# Altium schematic symbol library dongxf_Schlib.SchLib: 300 symbols (part 1 of 6)
Pins are listed as number, name and electrical type; pins without a type are passive.

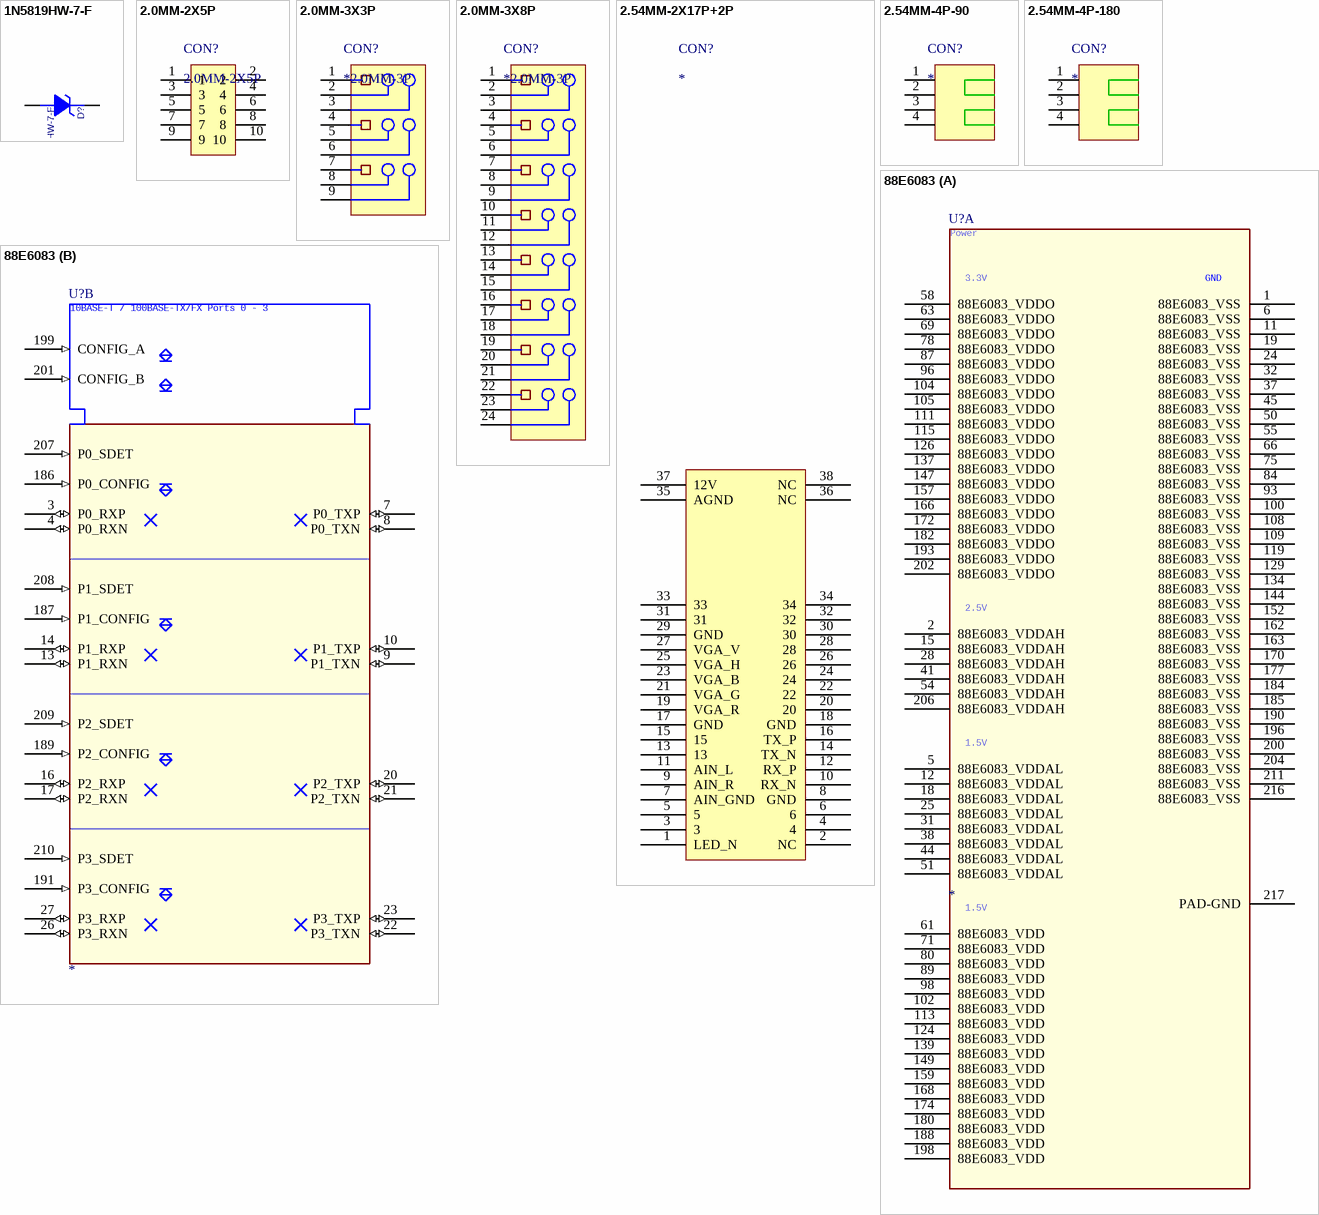
[diagram p0: symbols 1N5819HW-7-F to 88E6083]

## 1N5819HW-7-F
designator D?
Manufacturer: Diodes Incorporated; Configuration: Single; Forward Continuous Current: 1 A; Max Surge Current: 25 A; Forward Voltage Drop: 0.75 V at 3 A; Maximum Power Dissipation: 450 mW; Maximum Reverse Leakage Current: 1000 uA; Peak Reverse Voltage: 40 V; Impedance: 60 Ohms; Maximum DC Current: 3 A; Maximum DC Resistance: 40 mOhms; Tolerance: 25 %; Case Height: 0.94 mm; Case Length: 1.6 mm; Case Width: 0.8 mm; Test Frequency: 100 MHz; Supplier 1: Mouser; Manufacturer Part Number: 1N5819HW-7-F; RoHS: RoHS Compliant; Category: Schottky Diodes & Rectifiers; Stock 1: 48875; Pricing 1: 1=0.689, 10=0.389, 100=0.166, 1000=0.128, 3000=0.097, 9000=0.086, 24000=0.081, 45000=0.072, 99000=0.068 (AUD); Operating Temperature Range: - 65 C to + 125 C; Package / Case: SOD-123; Packaging: Reel; Product: Schottky Rectifiers; Series: 1N5819; Brand: Diodes Incorporated; Mounting Style: SMD/SMT; Product Category: Rectifier - Schottky; Standard Pack Qty: 3000; RoHS - Mouser: Y; Minimum Order Quantity: 1; Reeling: True; ComponentLink1URL: http://www.mouser.com/ds/2/115/ds30217-71027.pdf; ComponentLink1Description: http://www.mouser.com/ds/2/115/ds30217-71027.pdf; Supplier Part Number 1: 621-1N5819HW-F; My_Descript: 1N5819HW-7-F; Supplier 2: Mouser; Stock 2: 902; Pricing 2: 1=0.135, 25=0.093, 50=0.072, 100=0.065, 500=0.058, 1000=0.050, 2000=0.047, 4000=0.042, 8000=0.039 (AUD); Capacitance: -; Dimensions: 0.8 mm W x 1.6 mm L x 0.94 mm H; Termination Style: SMD/SMT; ComponentLink2URL: http://doc.aemcomponents.com/catalog/AEM_MCP.pdf; ComponentLink2Description: http://doc.aemcomponents.com/catalog/AEM_MCP.pdf; Supplier Part Number 2: 637-MCP0603F600PT-T
footprint D1206
pins: A ANODE, C CATHODE

## 2.0MM-2X5P
designator CON?
My_Descript: 2.0MM-2X5P
footprint CON2.0_2X5
pins: 1, 2, 3, 4, 5, 6, 7, 8, 9, 10

## 2.0MM-3X3P
designator CON?, comment *2.0MM-3P
pins: 1, 2, 3, 4, 5, 6, 7, 8, 9

## 2.0MM-3X8P
designator CON?, comment *2.0MM-3P
pins: 1, 2, 3, 4, 5, 6, 7, 8, 9, 10, 11, 12, 13, 14, 15, 16, 17, 18, 19, 20, 21, 22, 23, 24

## 2.54MM-2X17P+2P
designator CON?
pins: 1 LED_N, 2 NC, 3, 4, 5, 6, 7 AIN_GND, 8 GND, 9 AIN_R, 10 RX_N, 11 AIN_L, 12 RX_P, 13, 14 TX_N, 15, 16 TX_P, 17 GND, 18 GND, 19 VGA_R, 20, 21 VGA_G, 22, 23 VGA_B, 24, 25 VGA_H, 26, 27 VGA_V, 28, 29 GND, 30, 31, 32, 33, 34, 35 AGND, 36 NC, 37 12V, 38 NC

## 2.54MM-4P-90
designator CON?
footprint 2.54MM-4P-90
pins: 1 10, 2 11, 3 12, 4 13

## 2.54MM-4P-180
designator CON?
footprint 2.54MM-4P-180
pins: 1 10, 2 11, 3 12, 4 13

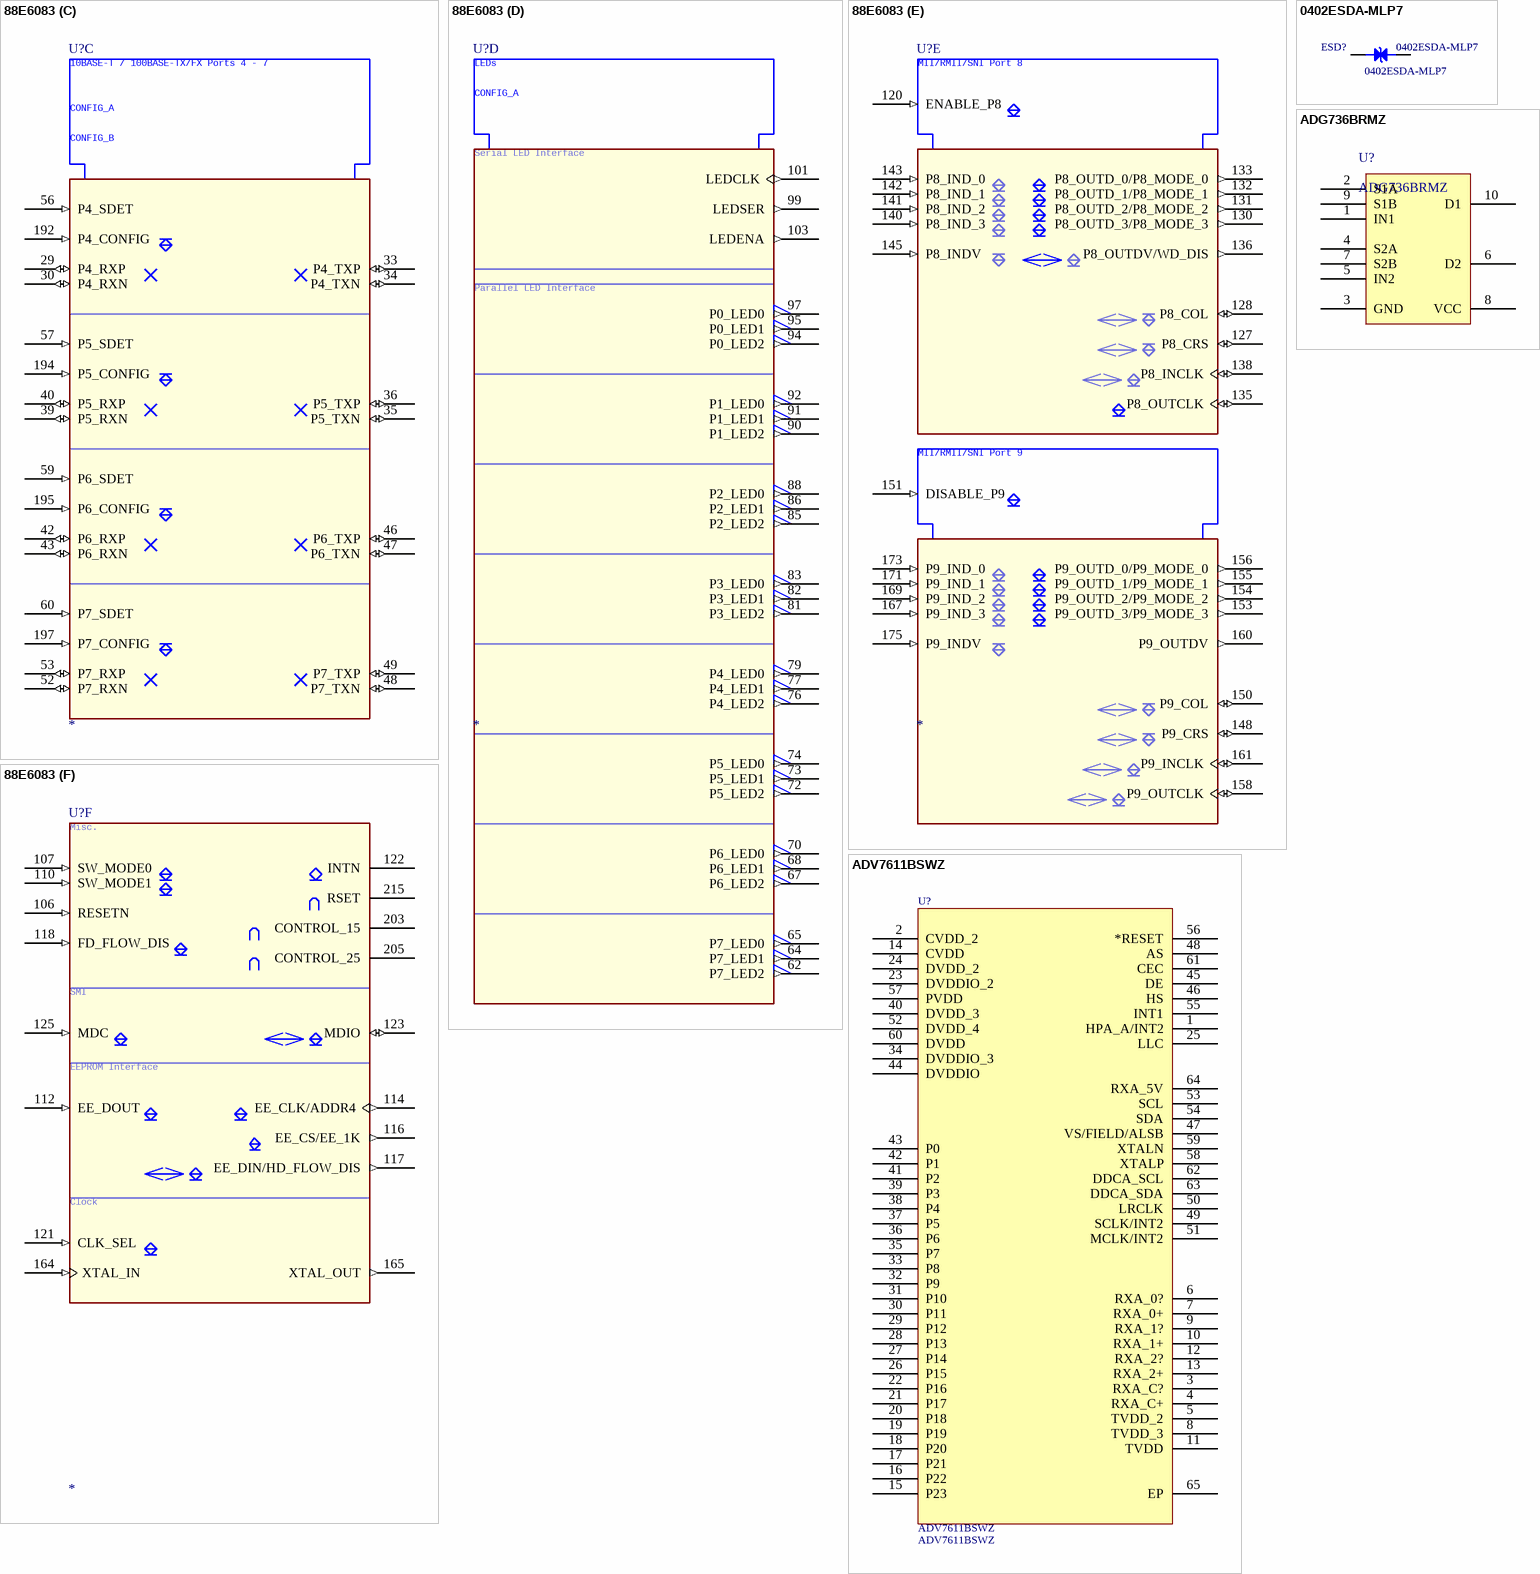
[diagram p1: symbols 88E6083 to ADV7611BSWZ]

## 88E6083
designator U?
footprint LQFP216
part A pins: 1 88E6083_VSS (power), 2 88E6083_VDDAH (power), 5 88E6083_VDDAL (power), 6 88E6083_VSS (power), 11 88E6083_VSS (power), 12 88E6083_VDDAL (power), 15 88E6083_VDDAH (power), 18 88E6083_VDDAL (power), 19 88E6083_VSS (power), 24 88E6083_VSS (power), 25 88E6083_VDDAL (power), 28 88E6083_VDDAH (power), 31 88E6083_VDDAL (power), 32 88E6083_VSS (power), 37 88E6083_VSS (power), 38 88E6083_VDDAL (power), 41 88E6083_VDDAH (power), 44 88E6083_VDDAL (power), 45 88E6083_VSS (power), 50 88E6083_VSS (power), 51 88E6083_VDDAL (power), 54 88E6083_VDDAH (power), 55 88E6083_VSS (power), 58 88E6083_VDDO (power), 61 88E6083_VDD (power), 63 88E6083_VDDO (power), 66 88E6083_VSS (power), 69 88E6083_VDDO (power), 71 88E6083_VDD (power), 75 88E6083_VSS (power), 78 88E6083_VDDO (power), 80 88E6083_VDD (power), 84 88E6083_VSS (power), 87 88E6083_VDDO (power), 89 88E6083_VDD (power), 93 88E6083_VSS (power), 96 88E6083_VDDO (power), 98 88E6083_VDD (power), 100 88E6083_VSS (power), 102 88E6083_VDD (power), 104 88E6083_VDDO (power), 105 88E6083_VDDO (power), 108 88E6083_VSS (power), 109 88E6083_VSS (power), 111 88E6083_VDDO (power), 113 88E6083_VDD (power), 115 88E6083_VDDO (power), 119 88E6083_VSS (power), 124 88E6083_VDD (power), 126 88E6083_VDDO (power), 129 88E6083_VSS (power), 134 88E6083_VSS (power), 137 88E6083_VDDO (power), 139 88E6083_VDD (power), 144 88E6083_VSS (power), 147 88E6083_VDDO (power), 149 88E6083_VDD (power), 152 88E6083_VSS (power), 157 88E6083_VDDO (power), 159 88E6083_VDD (power), 162 88E6083_VSS (power), 163 88E6083_VSS (power), 166 88E6083_VDDO (power), 168 88E6083_VDD (power), 170 88E6083_VSS (power), 172 88E6083_VDDO (power), 174 88E6083_VDD (power), 177 88E6083_VSS (power), 180 88E6083_VDD (power), 182 88E6083_VDDO (power), 184 88E6083_VSS (power), 185 88E6083_VSS (power), 188 88E6083_VDD (power), 190 88E6083_VSS (power), 193 88E6083_VDDO (power), 196 88E6083_VSS (power), 198 88E6083_VDD (power), 200 88E6083_VSS (power), 202 88E6083_VDDO (power), 204 88E6083_VSS (power), 206 88E6083_VDDAH (power), 211 88E6083_VSS (power), 216 88E6083_VSS (power), 217 PAD-GND
part B pins: 3 P0_RXP (io), 4 P0_RXN (io), 7 P0_TXP (io), 8 P0_TXN (io), 9 P1_TXN (io), 10 P1_TXP (io), 13 P1_RXN (io), 14 P1_RXP (io), 16 P2_RXP (io), 17 P2_RXN (io), 20 P2_TXP (io), 21 P2_TXN (io), 22 P3_TXN (io), 23 P3_TXP (io), 26 P3_RXN (io), 27 P3_RXP (io), 186 P0_CONFIG (in), 187 P1_CONFIG (in), 189 P2_CONFIG (in), 191 P3_CONFIG (in), 199 CONFIG_A (in), 201 CONFIG_B (in), 207 P0_SDET (in), 208 P1_SDET (in), 209 P2_SDET (in), 210 P3_SDET (in)
part C pins: 29 P4_RXP (io), 30 P4_RXN (io), 33 P4_TXP (io), 34 P4_TXN (io), 35 P5_TXN (io), 36 P5_TXP (io), 39 P5_RXN (io), 40 P5_RXP (io), 42 P6_RXP (io), 43 P6_RXN (io), 46 P6_TXP (io), 47 P6_TXN (io), 48 P7_TXN (io), 49 P7_TXP (io), 52 P7_RXN (io), 53 P7_RXP (io), 56 P4_SDET (in), 57 P5_SDET (in), 59 P6_SDET (in), 60 P7_SDET (in), 192 P4_CONFIG (in), 194 P5_CONFIG (in), 195 P6_CONFIG (in), 197 P7_CONFIG (in)
part D pins: 62 P7_LED2 (out), 64 P7_LED1 (out), 65 P7_LED0 (out), 67 P6_LED2 (out), 68 P6_LED1 (out), 70 P6_LED0 (out), 72 P5_LED2 (out), 73 P5_LED1 (out), 74 P5_LED0 (out), 76 P4_LED2 (out), 77 P4_LED1 (out), 79 P4_LED0 (out), 81 P3_LED2 (out), 82 P3_LED1 (out), 83 P3_LED0 (out), 85 P2_LED2 (out), 86 P2_LED1 (out), 88 P2_LED0 (out), 90 P1_LED2 (out), 91 P1_LED1 (out), 92 P1_LED0 (out), 94 P0_LED2 (out), 95 P0_LED1 (out), 97 P0_LED0 (out), 99 LEDSER (out), 101 LEDCLK (out), 103 LEDENA (out)
part E pins: 120 ENABLE_P8 (in), 127 P8_CRS (io), 128 P8_COL (io), 130 P8_OUTD_3/P8_MODE_3 (out), 131 P8_OUTD_2/P8_MODE_2 (out), 132 P8_OUTD_1/P8_MODE_1 (out), 133 P8_OUTD_0/P8_MODE_0 (out), 135 P8_OUTCLK (io), 136 P8_OUTDV/WD_DIS (out), 138 P8_INCLK (io), 140 P8_IND_3 (in), 141 P8_IND_2 (in), 142 P8_IND_1 (in), 143 P8_IND_0 (in), 145 P8_INDV (in), 148 P9_CRS (io), 150 P9_COL (io), 151 DISABLE_P9 (in), 153 P9_OUTD_3/P9_MODE_3 (out), 154 P9_OUTD_2/P9_MODE_2 (out), 155 P9_OUTD_1/P9_MODE_1 (out), 156 P9_OUTD_0/P9_MODE_0 (out), 158 P9_OUTCLK (io), 160 P9_OUTDV (out), 161 P9_INCLK (io), 167 P9_IND_3 (in), 169 P9_IND_2 (in), 171 P9_IND_1 (in), 173 P9_IND_0 (in), 175 P9_INDV (in)
part F pins: 106 RESETN (in), 107 SW_MODE0 (in), 110 SW_MODE1 (in), 112 EE_DOUT (in), 114 EE_CLK/ADDR4 (out), 116 EE_CS/EE_1K (out), 117 EE_DIN/HD_FLOW_DIS (out), 118 FD_FLOW_DIS (in), 121 CLK_SEL (in), 122 INTN (oe), 123 MDIO (io), 125 MDC (in), 164 XTAL_IN (in), 165 XTAL_OUT (out), 203 CONTROL_15, 205 CONTROL_25, 215 RSET
part A text: Power; 3.3V; GND; 2.5V; 1.5V
part B text: 10BASE-T / 100BASE-TX/FX Ports 0 - 3
part C text: 10BASE-T / 100BASE-TX/FX Ports 4 - 7
part D text: LEDs; Serial LED Interface; Parallel LED Interface
part E text: MII/RMII/SNI Port 8; MII/RMII/SNI Port 9
part F text: Misc.; SMI; EEPROM Interface; Clock

## 0402ESDA-MLP7
designator ESD?
ESD Suppressors ESD 30VDC 0402 SMD SUPPRESSOR; Manufacturer: Cooper Bussmann; Capacitance: 0.05 pF; Clamping Voltage: 35 V; Supplier 1: Mouser; Supplier Part Number 1: 504-0402ESDA-MLP7; RoHS: RoHS Compliant; Category: ESD Suppressors; Operating Temperature Range: - 55 C to + 125 C; Operating Voltage: 30 VDC; Package / Case: 0402 (1005 metric); Termination Style: Solder Pad; Product Category: Transient Voltage Suppressors; RoHS - Mouser: Y; Reeling: False; ComponentLink1URL: http://www.mouser.com/ds/2/87/9bb007b1-35a6-4eb2-a52f-3d6970c49915-18025.pdf; ComponentLink1Description: http://www.mouser.com/ds/2/87/9bb007b1-35a6-4eb2-a52f-3d6970c49915-18025.pdf; My_Descript: 0402ESDA-MLP7; Manufacturer Part Number: 0402ESDA-MLP7
footprint ESD0402 (Same Footprint  as CAPC1005X55L_ZYN)
pins: 1, 2

## ADG736BRMZ
designator U?
pins: 1 IN1, 2 S1A, 3 GND, 4 S2A, 5 IN2, 6 D2, 7 S2B, 8 VCC, 9 S1B, 10 D1

## ADV7611BSWZ
designator U?
Manufacturer: Analog Devices; Product Status: New at Mouser; Taobao Price: 32.8; Supplier 1: Mouser; Supplier Part Number 1: 584-ADV7611BSWZ; Series: ADV7611; RoHS: RoHS Compliant; Package / Case: LQFP EP; Mounting Style: SMD/SMT; Category: Video ICs; Packaging: Tray; Reeling: False; Maximum Operating Temperature: + 85 C; Standard Pack Qty: 160; RoHS - Mouser: Y; Minimum Operating Temperature: - 40 C; Taobao Link: http://item.taobao.com/item.htm?spm=a230r.1.14.13.X1Oe7f&id=20746468361&_u=j1hhrld7711; My_Descript: ADV7611BSWZ; Manufacturer Part Number: ADV7611BSWZ
footprint QFP50P1200X1200X120-65CN
pins: 1 HPA_A/INT2, 2 CVDD_2, 3 RXA_C?, 4 RXA_C+, 5 TVDD_2, 6 RXA_0?, 7 RXA_0+, 8 TVDD_3, 9 RXA_1?, 10 RXA_1+, 11 TVDD, 12 RXA_2?, 13 RXA_2+, 14 CVDD, 15 P23, 16 P22, 17 P21, 18 P20, 19 P19, 20 P18, 21 P17, 22 P16, 23 DVDDIO_2, 24 DVDD_2, 25 LLC, 26 P15, 27 P14, 28 P13, 29 P12, 30 P11, 31 P10, 32 P9, 33 P8, 34 DVDDIO_3, 35 P7, 36 P6, 37 P5, 38 P4, 39 P3, 40 DVDD_3, 41 P2, 42 P1, 43 P0, 44 DVDDIO, 45 DE, 46 HS, 47 VS/FIELD/ALSB, 48 AS, 49 SCLK/INT2, 50 LRCLK, 51 MCLK/INT2, 52 DVDD_4, 53 SCL, 54 SDA, 55 INT1, 56 *RESET, 57 PVDD, 58 XTALP, 59 XTALN, 60 DVDD, 61 CEC, 62 DDCA_SCL, 63 DDCA_SDA, 64 RXA_5V, 65 EP

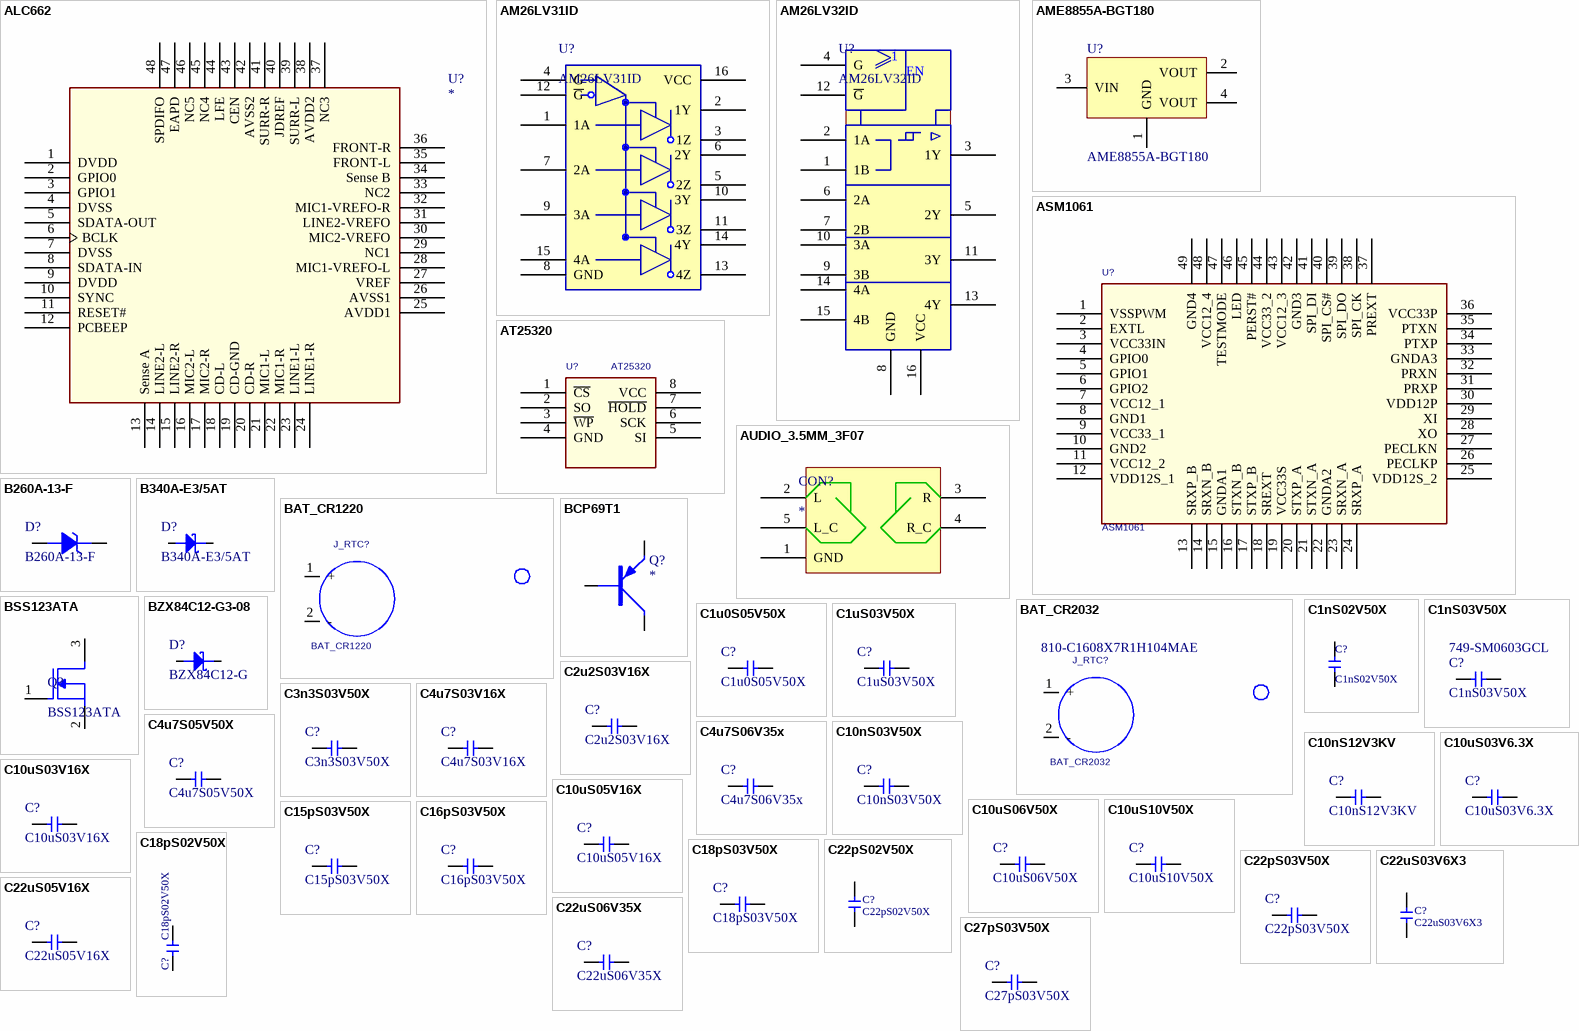
[diagram p2: symbols ALC662 to C27pS03V50X]

## ALC662
designator U?
footprint qfn48p0_5d_8w_tg
pins: 1 DVDD (power), 2 GPIO0, 3 GPIO1, 4 DVSS (power), 5 SDATA-OUT, 6 BCLK, 7 DVSS (power), 8 SDATA-IN, 9 DVDD (power), 10 SYNC, 11 RESET#, 12 PCBEEP, 13 Sense A, 14 LINE2-L, 15 LINE2-R, 16 MIC2-L, 17 MIC2-R, 18 CD-L, 19 CD-GND, 20 CD-R, 21 MIC1-L, 22 MIC1-R, 23 LINE1-L, 24 LINE1-R, 25 AVDD1, 26 AVSS1, 27 VREF, 28 MIC1-VREFO-L, 29 NC1, 30 MIC2-VREFO, 31 LINE2-VREFO, 32 MIC1-VREFO-R, 33 NC2, 34 Sense B, 35 FRONT-L, 36 FRONT-R, 37 NC3, 38 AVDD2, 39 SURR-L, 40 JDREF, 41 SURR-R, 42 AVSS2, 43 CEN, 44 LFE, 45 NC4, 46 NC5, 47 EAPD, 48 SPDIFO

## AM26LV31ID
designator U?
Buffers & Line Drivers LoVltg Hi-Sp Quad Diff Line Driver; Manufacturer: Texas Instruments; Interface: EIA/TIA-422-B. V.11; Supply Current: 0.1 mA; Number of Output Lines: 4; Number of Channels per Chip: 1 Channel; Supply Voltage - Max: 3.6 V; Supply Voltage - Min: 3 V; Supplier 1: Mouser; Manufacturer Part Number: AM26LV31ID; RoHS: RoHS Compliant; Category: Buffers & Line Drivers; Stock 1: 1540; Pricing 1: 1=1.84, 10=1.47, 100=1.13, 500=0.875, 1000=0.790, 2000=0.701, 10000=0.674 (AUD); Package / Case: SOIC-16; Packaging: Tube; Series: AM26LV31; Brand: Texas Instruments; Mounting Style: SMD/SMT; Maximum Operating Temperature: + 85 C; Minimum Operating Temperature: - 40 C; Product Category: Line Circuit Interface ICs; Standard Pack Qty: 40; RoHS - Mouser: Y; Minimum Order Quantity: 1; Reeling: False; ComponentLink1URL: http://www.mouser.com/ds/2/405/slls201g-127771.pdf; ComponentLink1Description: http://www.mouser.com/ds/2/405/slls201g-127771.pdf; Supplier Part Number 1: 595-AM26LV31ID; My_Descript: AM26LV31ID
footprint SOIC16
pins: 1 1A, 2 1Y, 3 1Z, 4 G, 5 2Z, 6 2Y, 7 2A, 8 GND, 9 3A, 10 3Y, 11 3Z, 12 ~{G}, 13 4Z, 14 4Y, 15 4A, 16 VCC

## AM26LV32ID
designator U?
Manufacturer: Texas Instruments; Protocol: RS422; Number of Drivers/Receivers: 0/4; Receiver Hysteresis: 50mV; Voltage - Supply: 3 V ~ 3.6 V; Supplier 1: Digi-Key; Manufacturer Part Number: AM26LV32ID; RoHS: RoHS Compliant; Category: Integrated Circuits (ICs); Stock 1: 957; Pricing 1: 1=1.71, 10=1.54, 50=1.375, 100=1.2375, 250=1.1, 500=0.9625, 750=0.869, 1000=0.7975 (USD); Packaging: Tube; Type: Receiver; Duplex: -; Data Rate: -; Operating Temperature: -40°C ~ 85°C; Mounting Type: Surface Mount; Package / Case: 16-SOIC (0.154", 3.90mm Width); Supplier Device Package: 16-SOIC N; ComponentLink1URL: http://www.ti.com/lit/ds/symlink/am26lv32.pdf; ComponentLink1Description: http://www.ti.com/lit/ds/symlink/am26lv32.pdf; My_Descript: AM26LV32ID; Supplier Part Number 1: 296-25914-5-ND
footprint SOIC16
pins: 1 1B, 2 1A, 3 1Y, 4 G, 5 2Y, 6 2A, 7 2B, 8 GND, 9 3B, 10 3A, 11 3Y, 12 ~{G}, 13 4Y, 14 4A, 15 4B, 16 VCC
text: EN

## AME8855A-BGT180
designator U?
IC REG LDO 1.8V 0.8A SOT223; Manufacturer Part Number: AME8855A-BGT180; My_Descript: AME8855A-BGT180
footprint SOT223-4
pins: 1 GND, 2 VOUT, 3 VIN, 4 VOUT

## ASM1061
designator U?
REUSE_ANNOTATE: TRUE
footprint qfn48p0_5d_tg
footprint qfn48p0_5d_tg
pins: 1 VSSPWM, 2 EXTL, 3 VCC33IN, 4 GPIO0, 5 GPIO1, 6 GPIO2, 7 VCC12_1, 8 GND1, 9 VCC33_1, 10 GND2, 11 VCC12_2, 12 VDD12S_1, 13 SRXP_B, 14 SRXN_B, 15 GNDA1, 16 STXN_B, 17 STXP_B, 18 SREXT, 19 VCC33S, 20 STXP_A, 21 STXN_A, 22 GNDA2, 23 SRXN_A, 24 SRXP_A, 25 VDD12S_2, 26 PECLKP, 27 PECLKN, 28 XO, 29 XI, 30 VDD12P, 31 PRXP, 32 PRXN, 33 GNDA3, 34 PTXP, 35 PTXN, 36 VCC33P, 37 PREXT, 38 SPI_CK, 39 SPI_DO, 40 SPI_CS#, 41 SPI_DI, 42 GND3, 43 VCC12_3, 44 VCC33_2, 45 PERST#, 46 LED, 47 TESTMODE, 48 VCC12_4, 49 GND4

## AT25320
designator U?
Manufacturer: ATMEL; MPN: AT93C46DN-SH-T; DEVICE: D33624-001; NO_STUFF: .; REUSE_ANNOTATE: TRUE; IPN: ?; PART_NUMBER: AT93C46DN-SH-T
footprint sop8_tg
footprint sop8_tg
pins: 1 ~{CS}, 2 SO, 3 ~{WP}, 4 GND, 5 SI, 6 SCK, 7 ~{HOLD}, 8 VCC

## AUDIO_3.5MM_3F07
designator CON?
footprint AUDIO_3.5MM_3F07
pins: 1 GND, 2 L, 3 R, 4 R_C, 5 L_C

## B260A-13-F
designator D?
Schottky Diodes & Rectifiers 60V 2A; Manufacturer: Diodes Incorporated; Configuration: Single; Max Surge Current: 50 A; Forward Voltage Drop: 0.7 V; Maximum Reverse Leakage Current: 500 uA; Supplier 1: Mouser; Manufacturer Part Number: B260A-13-F; RoHS: RoHS Compliant By Exemption; Category: Schottky Diodes & Rectifiers; Stock 1: 24464; Pricing 1: 1=0.635, 10=0.419, 100=0.234, 1000=0.161, 5000=0.147, 10000=0.138, 25000=0.127, 50000=0.122 (AUD); Operating Temperature Range: - 65 C to + 150 C; Package / Case: SMA; Packaging: Reel; Product: Schottky Diodes; Series: B260; Brand: Diodes Incorporated; Forward Continuous Current: 2 A; Mounting Style: SMD/SMT; Peak Reverse Voltage: 60 V; Product Category: Rectifier - Schottky; Standard Pack Qty: 5000; RoHS - Mouser: E; Minimum Order Quantity: 1; Reeling: True; ComponentLink1URL: http://www.mouser.com/ds/2/115/ds13004-70120.pdf; ComponentLink1Description: http://www.mouser.com/ds/2/115/ds13004-70120.pdf; Supplier Part Number 1: 621-B260A-F; My_Descript: B260A-13-F
footprint SMb
pins: A ANODE, C CATHODE

## B340A-E3/5AT
designator D?
Schottky Diodes & Rectifiers 3.0 Amp 40 Volt; Manufacturer: Vishay Semiconductors; Configuration: Single; Forward Continuous Current: 3 A; Max Surge Current: 65 A; Forward Voltage Drop: 0.55 V; Maximum Reverse Leakage Current: 500 uA; Peak Reverse Voltage: 40 V; Supplier 1: Mouser; Manufacturer Part Number: B340A-E3/5AT; RoHS: RoHS Compliant By Exemption; Category: Schottky Diodes & Rectifiers; Stock 1: 0; Pricing 1: 1=0.351, 10=0.324, 50=0.297, 100=0.270, 750=0.203, 1500=0.176, 3000=0.154, 7500=0.151 (AUD); Operating Temperature Range: - 65 C to + 150 C; Package / Case: SMA (DO-214AC); Packaging: Reel; Product: Schottky Rectifiers; Brand: Vishay Semiconductors; Mounting Style: SMD/SMT; Product Category: Schottky Rectifiers; Standard Pack Qty: 7500; RoHS - Mouser: E; Minimum Order Quantity: 1; Reeling: True; ComponentLink1URL: http://www.mouser.com/ds/2/427/b330la-104191.pdf; ComponentLink1Description: http://www.mouser.com/ds/2/427/b330la-104191.pdf; Supplier Part Number 1: 625-B340A-E3/5AT; My_Descript: B340A-E3/5AT
footprint SMA (DO-214AC)
pins: A, C

## BAT_CR1220
designator J_RTC?
Manufacturer: JST; PART_NUMBER: SM02B-SRSS-TB; Manufacturer Part Number: C1608X7R1H104M080AE; NO_STUFF: .; LEAD_FREE: YES; IPN: D39917-001; Capacitance: 0.1 uF; Tolerance: 20 %; Voltage Rating: 50 V; Brand: TDK; Case Height: 0.8 mm; Case Length: 1.6 mm; Class: Class 2; Dielectric: X7R; Dissipation Factor DF: 3; Product Status: New Product; MPN: SM02B-SRSS-TB; DEVICE: SM02B-SRSS-TB; Supplier 1: Mouser; RoHS: RoHS Compliant; Category: Multilayer Ceramic Capacitors MLCC - SMD/SMT; Stock 1: 0; Pricing 1: 1=0.311, 10=0.135, 100=0.081, 1000=0.069, 4000=0.051, 8000=0.049, 24000=0.046, 48000=0.043, 100000=0.036 (AUD); Operating Temperature Range: - 55 C to + 125 C; Package / Case: 0603 (1608 metric); Packaging: Reel; Product: General Type MLCCs; Termination Style: SMD/SMT; Type: Soft Termination MLCC; Voltage Rating DC: 50 V; Case Code - in: 0603; Case Code - mm: 1608; Case Width: 0.8 mm; Temperature Coefficient / Code: X7R; RoHS - Mouser: Y; Minimum Order Quantity: 1; Reeling: True; ComponentLink1URL: http://product.tdk.com/capacitor/mlcc/detailed_information.php?lang=en&ref=us&part_no=C1608X7R1H104M080AE; ComponentLink1Description: http://product.tdk.com/capacitor/mlcc/detailed_information.php?lang=en&ref=us&part_no=C1608X7R1H104M080AE; My_Descript: BAT_CR1220; Supplier Part Number 1: S8411-45R
footprint BAT_CR1220
footprint bat_cr2032_mini_tg
pins: 1 +, 2 -

## BAT_CR2032
designator J_RTC?  Supplier Part Number 1: 810-C1608X7R1H104MAE
Manufacturer: JST; PART_NUMBER: SM02B-SRSS-TB; Manufacturer Part Number: C1608X7R1H104M080AE; NO_STUFF: .; LEAD_FREE: YES; IPN: D39917-001; Capacitance: 0.1 uF; Tolerance: 20 %; Voltage Rating: 50 V; Brand: TDK; Case Height: 0.8 mm; Case Length: 1.6 mm; Class: Class 2; Dielectric: X7R; Dissipation Factor DF: 3; Product Status: New Product; MPN: SM02B-SRSS-TB; DEVICE: SM02B-SRSS-TB; Supplier 1: Mouser; RoHS: RoHS Compliant; Category: Multilayer Ceramic Capacitors MLCC - SMD/SMT; Stock 1: 0; Pricing 1: 1=0.311, 10=0.135, 100=0.081, 1000=0.069, 4000=0.051, 8000=0.049, 24000=0.046, 48000=0.043, 100000=0.036 (AUD); Operating Temperature Range: - 55 C to + 125 C; Package / Case: 0603 (1608 metric); Packaging: Reel; Product: General Type MLCCs; Termination Style: SMD/SMT; Type: Soft Termination MLCC; Voltage Rating DC: 50 V; Case Code - in: 0603; Case Code - mm: 1608; Case Width: 0.8 mm; Temperature Coefficient / Code: X7R; RoHS - Mouser: Y; Minimum Order Quantity: 1; Reeling: True; ComponentLink1URL: http://product.tdk.com/capacitor/mlcc/detailed_information.php?lang=en&ref=us&part_no=C1608X7R1H104M080AE; ComponentLink1Description: http://product.tdk.com/capacitor/mlcc/detailed_information.php?lang=en&ref=us&part_no=C1608X7R1H104M080AE
footprint bat_cr2032_tg
footprint bat_cr2032_mini_tg
pins: 1 +, 2 -

## BCP69T1
designator Q?
Manufacturer: ON Semiconductor; Manufacturer Part Number: BCP69T1G; Collector- Base Voltage VCBO: - 25 V; Collector- Emitter Voltage VCEO Max: - 20 V; Configuration: Single; Emitter- Base Voltage VEBO: 5 V; Collector-Emitter Saturation Voltage: - 0.5 V; Continuous Collector Current: - 1 A; Transistor Polarity: PNP; DC Collector/Base Gain hfe Min: 50; Gain Bandwidth Product fT: 60 MHz; Maximum DC Collector Current: 1 A; Maximum Power Dissipation: 1.5 W; My_Descript: BCP69T1; Supplier 1: Mouser; RoHS: RoHS Compliant; Category: Transistors Bipolar - BJT; Stock 1: 1742; Pricing 1: 1=0.770, 10=0.443, 100=0.209, 1000=0.161, 2000=0.136, 10000=0.126, 25000=0.117, 50000=0.105, 100000=0.101 (AUD); Package / Case: SOT-223-4; Packaging: Reel; Series: BCP69; Brand: ON Semiconductor; Mounting Style: SMD/SMT; Maximum Operating Temperature: + 150 C; Minimum Operating Temperature: - 65 C; Product Category: Transistors Bipolar- General Purpose; Standard Pack Qty: 1000; RoHS - Mouser: Y; Minimum Order Quantity: 1; Reeling: True; ComponentLink1URL: http://www.mouser.com/ds/2/308/BCP69T1-D-102818.pdf; ComponentLink1Description: http://www.mouser.com/ds/2/308/BCP69T1-D-102818.pdf; Supplier Part Number 1: 863-BCP69T1G
footprint SOT223-4
pins: 1 B, 2 E, 3 C, 4 C

## BSS123ATA
designator Q?
MOSFET N-Chnl 100V; Manufacturer: Diodes Incorporated; Configuration: Single; Transistor Polarity: N-Channel; Channel Mode: Enhancement; Fall Time: 10 ns; Id - Continuous Drain Current: 170 mA; Pd - Power Dissipation: 360 mW; Rds On - Drain-Source Resistance: 10 Ohms; Typical Turn-Off Delay Time: 15 ns; Vgs - Gate-Source Breakdown Voltage: 20 V; Product Status: Obsolete; Supplier 1: Mouser; Manufacturer Part Number: BSS123ATA; RoHS: RoHS Compliant; Category: MOSFET; Stock 1: 0; Package / Case: SOT-23-3; Packaging: Reel; Series: BSS123; Brand: Diodes Incorporated; Mounting Style: SMD/SMT; Maximum Operating Temperature: + 150 C; Minimum Operating Temperature: - 55 C; Product Category: MOSFETs; Rise Time: 10 ns; Standard Pack Qty: 3000; Vds - Drain-Source Breakdown Voltage: 100 V; RoHS - Mouser: Y; Minimum Order Quantity: 1; Reeling: True; ComponentLink1URL: http://www.diodes.com/_files/products_inactive_data/BSS123A_R5.pdf; ComponentLink1Description: http://www.diodes.com/_files/products_inactive_data/BSS123A_R5.pdf; Supplier Part Number 1: 522-BSS123ATA; My_Descript: BSS123ATA
footprint SOT-23-3
pins: 1, 2, 3

## BZX84C12-G3-08
designator D?, comment BZX84C12-G
Zener Diodes 12 Volt 0.35W 5%; Manufacturer: Vishay Semiconductors; Manufacturer Part Number: BZX84C12-G3-08; Configuration: Single; Power Dissipation: 300 mW; Maximum Reverse Leakage Current: 100 nA; Maximum Zener Impedance: 25 Ohms; Voltage Temperature Coefficient: 0.9 mV/C; Zener Voltage: 12 V; Product Status: New Product; Supplier 1: Mouser; RoHS: RoHS Compliant; Category: Zener Diodes; Stock 1: 0; Pricing 1: 1=0.135, 10=0.055, 50=0.053, 100=0.049, 500=0.045, 1000=0.042, 3000=0.041, 9000=0.039, 18000=0.038 (AUD); Package / Case: SOT-23-3; Packaging: Reel; Product: Small Signal Zener Diodes; Series: BZX84; Brand: Vishay Semiconductors; Mounting Style: SMD/SMT; Maximum Operating Temperature: + 150 C; Minimum Operating Temperature: - 55 C; Product Category: Zener Diodes; Standard Pack Qty: 3000; Voltage Tolerance: 5 %; RoHS - Mouser: Y; Minimum Order Quantity: 1; Reeling: True; ComponentLink1URL: http://www.mouser.com/ds/2/427/bzx84-v--108145.pdf; ComponentLink1Description: http://www.mouser.com/ds/2/427/bzx84-v--108145.pdf; Supplier Part Number 1: 78-BZX84C12-G3-08; My_Descript: BZX84C12-G
footprint SOT-23-3
pins: 1, 2 hidden, 3

## C1nS02V50X
designator C?
Multilayer Ceramic Capacitors MLCC - SMD/SMT 50volts 1000pF X7R 10%; Manufacturer: Kemet; Manufacturer Part Number: C0402C102K5RACTU; Capacitance - nF: 1 nF; Capacitance - uF: 0.001 uF; Class: 2; Voltage Rating DC: 50 V; Value: 1000pF; Supplier 1: Mouser; Supplier Part Number 1: 80-C0402C102K5R; Dimensions: 0.5 mm W x 1 mm L x 0.5 mm H; Capacitance: 1000 pF; Category: Multilayer Ceramic Capacitors MLCC - SMD/SMT; Product: MLCCs Tin/Lead Termination; Package / Case: 0402 (1005 metric); RoHS: RoHS Compliant; Packaging: Reel; Operating Temperature Range: - 55 C to + 125 C; Case Code - in: 0402; Case Code - mm: 1005; Product Category: 0402 SMD Ceramic Chip Capacitors; RoHS - Mouser: Y; Standard Pack Qty: 10000; Lead Spacing: 0.3 mm; Series: C0402C; Voltage Rating: 50 V; Tolerance: 10 %; Temperature Coefficient / Code: X7R; Minimum Order Quantity: 1; Reeling: True; Termination Style: SMD/SMT; My_Descript: C1nS02V50X
footprint C0402 (1005 metric)
pins: 1, 2

## C1nS03V50X
designator C?  Supplier Part Number 2: 749-SM0603GCL
Multilayer Ceramic Capacitors MLCC - SMD/SMT 0603 1000pF 50volts C0G 5%; Manufacturer: TDK; Manufacturer Part Number: C1608C0G1H102J080AA; Type: Multilayer Ceramic Chip Capacitor; Voltage Rating DC: 50 V; Case Height: 0.8 mm; Case Length: 1.6 mm; Dielectric: C0G (NP0); Temperature Coefficient / Code: +/- 30 PPM / C; Illumination Color: Green; Lens Color/Style: Water Clear; Forward Current: 2 mA; Forward Voltage: 1.9 V; LED Size: 1.6 mm x 0.8 mm x 0.6 mm; Luminous Intensity: 3.6 mcd; Viewing Angle: 130 deg; Wavelength/Color Temperature: 574 nm; Supplier 1: Mouser; RoHS: RoHS Compliant; Category: Multilayer Ceramic Capacitors MLCC - SMD/SMT; Stock 1: 53064; Pricing 1: 1=0.459, 10=0.057, 100=0.034, 1000=0.027, 4000=0.019, 24000=0.016, 48000=0.015, 100000=0.012 (AUD); Capacitance: 1000 pF; Operating Temperature Range: - 55 C to + 125 C; Package / Case: 0603 (1608 metric); Packaging: Reel; Product: General Type MLCCs; Series: C; Termination Style: SMD/SMT; Tolerance: 5 %; Brand: TDK; Case Code - in: 0603; Case Code - mm: 1608; Case Width: 0.8 mm; Maximum Operating Temperature: + 125 C; Minimum Operating Temperature: - 55 C; Product Category: Low & Medium Capacitance SMD Ceramic Chip Capacitors; Standard Pack Qty: 4000; RoHS - Mouser: Y; Minimum Order Quantity: 1; Reeling: True; ComponentLink1URL: http://www.mouser.com/ds/2/400/C1608C0G1H102J080AA-264620.pdf; ComponentLink1Description: http://www.mouser.com/ds/2/400/C1608C0G1H102J080AA-264620.pdf; Supplier Part Number 1: 810-C1608C0G1H102J; My_Descript: C1nS03V50X; Supplier 2: Mouser; Stock 2: 0; Pricing 2: 1=0.486, 10=0.378, 100=0.340, 250=0.309, 500=0.271, 1000=0.232, 4000=0.232 (AUD); ComponentLink2URL: http://www.bivar.com/Portals/0/Products/d.ashx?f=/Portals/0/products/SM0603GCL.pdf; ComponentLink2Description: http://www.bivar.com/Portals/0/Products/d.ashx?f=/Portals/0/products/SM0603GCL.pdf
footprint C0603 (1608 metric)
pins: 1, 2

## C1u0S05V50X
designator C?
Multilayer Ceramic Capacitors MLCC - SMD/SMT 0805 1uF 50volts X7R 20% Soft Term; Manufacturer: TDK; Manufacturer Part Number: C2012X7R1H105M125AE; Type: Multilayer Ceramic Chip Capacitor (Flexible); Voltage Rating: 50 V; Case Height: 1.45 mm; Case Length: 2 mm; Case Width: 1.25 mm; Supplier 1: Mouser; RoHS: RoHS Compliant; Category: Multilayer Ceramic Capacitors MLCC - SMD/SMT; Stock 1: 10407; Pricing 1: 1=0.662, 10=0.383, 100=0.235, 1000=0.216, 2000=0.134, 10000=0.132, 24000=0.130, 50000=0.124, 100000=0.120 (AUD); Capacitance: 1 uF; Operating Temperature Range: - 55 C to + 125 C; Package / Case: 0805 (2012 metric); Packaging: Reel; Product: General Type MLCCs; Termination Style: SMD/SMT; Tolerance: 20 %; Brand: TDK; Case Code - in: 0805; Case Code - mm: 2012; Standard Pack Qty: 2000; Temperature Coefficient / Code: X7R; RoHS - Mouser: Y; Minimum Order Quantity: 1; Reeling: True; ComponentLink1URL: http://www.mouser.com/ds/2/400/C2012X7R1H105M125AE-264901.pdf; ComponentLink1Description: http://www.mouser.com/ds/2/400/C2012X7R1H105M125AE-264901.pdf; Supplier Part Number 1: 810-C2012X7R1H105MST; My_Descript: C1u0S05V50X
footprint C0805 (2012metric)
pins: 1, 2

## C1uS03V50X
designator C?
Multilayer Ceramic Capacitors MLCC - SMD/SMT 1.0UF    50V   10%        0603; Manufacturer: TDK; Manufacturer Part Number: C1608X6S1H105K080AC; Capacitance: 1 uF; Type: Commercial Grade MLCC; Case Height: 0.8 mm; Case Length: 1.6 mm; Class: Class 2; Dielectric: X6S; Dissipation Factor DF: 7.5; Product Status: New Product; Supplier 1: Mouser; RoHS: RoHS Compliant; Category: Multilayer Ceramic Capacitors MLCC - SMD/SMT; Stock 1: 6594; Pricing 1: 1=0.324, 10=0.151, 100=0.089, 1000=0.084, 4000=0.059, 8000=0.057, 24000=0.054, 48000=0.050, 100000=0.045 (AUD); Operating Temperature Range: - 55 C to + 105 C; Package / Case: 0603 (1608 metric); Packaging: Reel; Product: General Type MLCCs; Termination Style: SMD/SMT; Tolerance: 10 %; Voltage Rating: 50 V; Voltage Rating DC: 50 V; Brand: TDK; Case Code - in: 0603; Case Code - mm: 1608; Case Width: 0.8 mm; Temperature Coefficient / Code: X6S; RoHS - Mouser: Y; Minimum Order Quantity: 1; Reeling: True; ComponentLink1URL: http://product.tdk.com/capacitor/mlcc/detailed_information.php?lang=en&ref=us&part_no=C1608X6S1H105K080AC; ComponentLink1Description: http://product.tdk.com/capacitor/mlcc/detailed_information.php?lang=en&ref=us&part_no=C1608X6S1H105K080AC; Supplier Part Number 1: 810-C1608X6S1H105KAC; MY_Descript: C1uS03V50X
footprint C0603 (1608 metric)
pins: 1, 2

## C2u2S03V16X
designator C?
Multilayer Ceramic Capacitors MLCC - SMD/SMT 2.2uF 10% 16Volts; Manufacturer: TDK; Manufacturer Part Number: C1608X5R1C225K080AB; Type: Multilayer Ceramic Chip Capacitor; Voltage Rating: 16 V; Case Height: 0.8 mm; Case Length: 1.6 mm; Temperature Coefficient / Code: X5R; Supplier 1: Mouser; RoHS: RoHS Compliant; Category: Multilayer Ceramic Capacitors MLCC - SMD/SMT; Stock 1: 41032; Pricing 1: 1=0.230, 10=0.101, 100=0.061, 1000=0.051, 4000=0.039, 8000=0.036, 24000=0.035, 48000=0.032, 100000=0.027 (AUD); Capacitance: 2.2 uF; Operating Temperature Range: - 55 C to + 85 C; Package / Case: 0603 (1608 metric); Packaging: Reel; Product: General Type MLCCs; Termination Style: SMD/SMT; Tolerance: 10 %; Brand: TDK; Case Code - in: 0603; Case Code - mm: 1608; Case Width: 0.8 mm; Standard Pack Qty: 4000; RoHS - Mouser: Y; Minimum Order Quantity: 1; Reeling: True; ComponentLink1URL: http://www.mouser.com/ds/2/400/mlcc_commercial_general_en-266370.pdf; ComponentLink1Description: http://www.mouser.com/ds/2/400/mlcc_commercial_general_en-266370.pdf; Supplier Part Number 1: 810-C1608X5R1C225K-4; My_Descript: C2u2S03V16X
footprint C0603 (1608 metric)
pins: 1, 2

## C3n3S03V50X
designator C?
Manufacturer: TDK; Manufacturer Part Number: C1608C0G1H332J080AA; Capacitance: 3300 pF; Tolerance: 5 %; Type: Multilayer Ceramic Chip Capacitor; Voltage Rating: 50 V; Case Length: 1.6 mm; Case Width: 0.8 mm; Dielectric: C0G (NP0); Temperature Coefficient / Code: +/- 30 PPM / C; Supplier 1: Mouser; RoHS: RoHS Compliant; Category: Multilayer Ceramic Capacitors MLCC - SMD/SMT; Stock 1: 21219; Pricing 1: 1=0.284, 10=0.122, 100=0.073, 1000=0.062, 4000=0.046, 8000=0.043, 24000=0.042, 48000=0.039, 100000=0.032 (AUD); Operating Temperature Range: - 55 C to + 125 C; Package / Case: 0603 (1608 metric); Packaging: Reel; Product: General Type MLCCs; Series: C; Termination Style: SMD/SMT; Voltage Rating DC: 50 V; Brand: TDK; Case Code - in: 0603; Case Code - mm: 1608; Maximum Operating Temperature: + 125 C; Minimum Operating Temperature: - 55 C; Product Category: Low & Medium Capacitance SMD Ceramic Chip Capacitors; Standard Pack Qty: 4000; RoHS - Mouser: Y; Minimum Order Quantity: 1; Reeling: True; ComponentLink1URL: http://www.mouser.com/ds/2/400/C1608C0G1H332J080AA-264576.pdf; ComponentLink1Description: http://www.mouser.com/ds/2/400/C1608C0G1H332J080AA-264576.pdf; Supplier Part Number 1: 810-C1608C0G1H332J; My_Descript: C3n3S03V50X
footprint C0603 (1608 metric)
pins: 1, 2

## C4u7S03V16X
designator C?
Multilayer Ceramic Capacitors MLCC - SMD/SMT 0603 4.7uF 16volts X6S +/-10% GP; Manufacturer: TDK; Manufacturer Part Number: C1608X6S1C475K080AC; Tolerance: 10 %; Type: Multilayer Ceramic Chip Capacitor; Voltage Rating: 16 V; Case Height: 0.8 mm; Case Length: 1.6 mm; Product Status: New at Mouser; Supplier 1: Mouser; RoHS: RoHS Compliant; Category: Multilayer Ceramic Capacitors MLCC - SMD/SMT; Stock 1: 6906; Pricing 1: 1=0.500, 10=0.270, 100=0.162, 1000=0.146, 4000=0.101, 8000=0.099, 24000=0.095, 48000=0.089, 100000=0.082 (AUD); Capacitance: 4.7 uF; Operating Temperature Range: - 55 C to + 105 C; Package / Case: 0603 (1608 metric); Packaging: Reel; Product: General Type MLCCs; Series: C; Termination Style: SMD/SMT; Brand: TDK; Case Code - in: 0603; Case Code - mm: 1608; Case Width: 0.8 mm; Standard Pack Qty: 4000; Temperature Coefficient / Code: X6S; RoHS - Mouser: Y; Minimum Order Quantity: 1; Reeling: True; ComponentLink1URL: http://www.mouser.com/ds/2/400/C1608X6S1C475K080AC-264641.pdf; ComponentLink1Description: http://www.mouser.com/ds/2/400/C1608X6S1C475K080AC-264641.pdf; Supplier Part Number 1: 810-C1608X6S1C475K; My_Descript: C4u7S03V16X
footprint C0603 (1608 metric)
pins: 1, 2

## C4u7S05V50X
designator C?
Manufacturer: TDK; Manufacturer Part Number: C2012X6S1H475M125AC; Capacitance: 4.7 uF; Tolerance: 20 %; Type: Commercial Grade MLCC; Voltage Rating: 50 V; Case Height: 1.25 mm; Case Length: 2 mm; Class: Class 2; Dielectric: X6S; Dissipation Factor DF: 7.5; Product Status: New Product; Supplier 1: Mouser; RoHS: RoHS Compliant; Category: Multilayer Ceramic Capacitors MLCC - SMD/SMT; Stock 1: 1825; Pricing 1: 1=0.932, 10=0.540, 100=0.331, 1000=0.304, 2000=0.189, 10000=0.185, 24000=0.182, 50000=0.176 (AUD); Operating Temperature Range: - 55 C to + 105 C; Package / Case: 0805 (2012 metric); Packaging: Reel; Product: General Type MLCCs; Termination Style: SMD/SMT; Voltage Rating DC: 50 V; Brand: TDK; Case Code - in: 0805; Case Code - mm: 2012; Case Width: 1.25 mm; Temperature Coefficient / Code: X6S; RoHS - Mouser: Y; Minimum Order Quantity: 1; Reeling: True; ComponentLink1URL: http://product.tdk.com/capacitor/mlcc/detailed_information.php?lang=en&ref=us&part_no=C2012X6S1H475M125AC; ComponentLink1Description: http://product.tdk.com/capacitor/mlcc/detailed_information.php?lang=en&ref=us&part_no=C2012X6S1H475M125AC; Supplier Part Number 1: 810-C2012X6S1H475MAC; My_Descript: C4u7S05V50X
footprint C0805 (2012metric)
pins: 1, 2

## C4u7S06V35x
designator C?
Multilayer Ceramic Capacitors MLCC - SMD/SMT 1206 35V 4.7uF X7R Boardflex Sensitive; Manufacturer: TDK; Manufacturer Part Number: C3216X7R1V475K160AE; Tolerance: 10 %; Type: Multilayer Ceramic Chip Capacitor (Flexible); Case Height: 1.6 mm; Case Length: 3.2 mm; Temperature Coefficient / Code: +/- 15 %; Supplier 1: Mouser; RoHS: RoHS Compliant; Category: Multilayer Ceramic Capacitors MLCC - SMD/SMT; Stock 1: 3351; Pricing 1: 1=1.12, 10=0.648, 100=0.397, 1000=0.365, 2000=0.227, 10000=0.223, 24000=0.219, 50000=0.211 (AUD); Capacitance: 4.7 uF; Operating Temperature Range: - 55 C to + 125 C; Package / Case: 1206 (3216 metric); Packaging: Reel; Product: General Type MLCCs; Series: C; Termination Style: SMD/SMT; Voltage Rating: 35 V; Voltage Rating DC: 35 V; Brand: TDK; Case Code - in: 1206; Case Code - mm: 3216; Case Width: 1.6 mm; Dielectric: X7R; Maximum Operating Temperature: + 125 C; Minimum Operating Temperature: - 55 C; Standard Pack Qty: 2000; RoHS - Mouser: Y; Minimum Order Quantity: 1; Reeling: True; ComponentLink1URL: http://www.mouser.com/ds/2/400/C3216X7R1V475K160AE-265197.pdf; ComponentLink1Description: http://www.mouser.com/ds/2/400/C3216X7R1V475K160AE-265197.pdf; Supplier Part Number 1: 810-C3216X7R1V475KST; My_Descript: C4u7S06V35x
footprint C1206(3216 metric)
pins: 1, 2

## C10nS03V50X
designator C?
Multilayer Ceramic Capacitors MLCC - SMD/SMT 0603 50volts 0.01uF X7R 20%; Manufacturer: TDK; Manufacturer Part Number: C1608X7R1H103M080AA; Type: Multilayer Ceramic Chip Capacitor; Voltage Rating: 50 V; Case Length: 1.6 mm; Case Width: 0.8 mm; Supplier 1: Mouser; RoHS: RoHS Compliant; Category: Multilayer Ceramic Capacitors MLCC - SMD/SMT; Stock 1: 25049; Pricing 1: 1=0.135, 10=0.018, 100=0.011, 1000=0.008, 4000=0.007, 8000=0.005, 48000=0.004 (AUD); Capacitance: 0.01 uF; Operating Temperature Range: - 55 C to + 125 C; Package / Case: 0603 (1608 metric); Packaging: Reel; Product: General Type MLCCs; Termination Style: SMD/SMT; Tolerance: 20 %; Brand: TDK; Case Code - in: 0603; Case Code - mm: 1608; Product Category: Low & Medium Capacitance SMD Ceramic Chip Capacitors; Standard Pack Qty: 4000; Temperature Coefficient / Code: X7R; RoHS - Mouser: Y; Minimum Order Quantity: 1; Reeling: True; ComponentLink1URL: http://www.mouser.com/ds/2/400/C1608X7R1H103M080AA-264839.pdf; ComponentLink1Description: http://www.mouser.com/ds/2/400/C1608X7R1H103M080AA-264839.pdf; Supplier Part Number 1: 810-C1608X7R1H103M; My_Descript: C10nS03V50X
footprint C0603 (1608 metric)
pins: 1, 2

## C10nS12V3KV
designator C?
Manufacturer: Yageo; Manufacturer Part Number: CC1812KKX7RDBB103; Capacitance: 0.01 uF; Tolerance: 10 %; Type: High Voltage Multilayer Ceramic Chip Capacitor; Voltage Rating: 2 kV; Dielectric: X7R; Temperature Coefficient / Code: +/- 15 %; Supplier 1: Mouser; RoHS: RoHS Compliant; Category: Multilayer Ceramic Capacitors MLCC - SMD/SMT; Stock 1: 0; Pricing 1: 1000=0.417, 2000=0.392, 5000=0.366, 10000=0.352, 25000=0.339 (AUD); Package / Case: 1812 (4532 metric); Packaging: Reel; Product: General Type MLCCs; Series: CC; Termination Style: SMD/SMT; Voltage Rating DC: 2 kV; Brand: Yageo; Case Code - in: 1812; Case Code - mm: 4532; Maximum Operating Temperature: + 125 C; Minimum Operating Temperature: - 55 C; Standard Pack Qty: 1000; RoHS - Mouser: E; Minimum Order Quantity: 1000; Reeling: True; ComponentLink1URL: http://www.yageo.com/documents/recent/UPY-GP_NP0_16V-to-50V_8.pdf; ComponentLink1Description: http://www.yageo.com/documents/recent/UPY-GP_NP0_16V-to-50V_8.pdf; Supplier Part Number 1: 603-CC812KKX7RDBB103; My_Descript: C10nS12V3KV
footprint C1812(4532)
pins: 1, 2

## C10uS03V6.3X
designator C?
Multilayer Ceramic Capacitors MLCC - SMD/SMT 0603 10uF 6.3volts X6S +/-20% GP; Manufacturer: TDK; Manufacturer Part Number: C1608X6S0J106M080AC; Tolerance: 20 %; Type: Multilayer Ceramic Chip Capacitor; Voltage Rating: 6.3 V; Case Height: 0.8 mm; Case Length: 1.6 mm; Product Status: New at Mouser; Supplier 1: Mouser; RoHS: RoHS Compliant; Category: Multilayer Ceramic Capacitors MLCC - SMD/SMT; Stock 1: 16567; Pricing 1: 1=0.621, 10=0.332, 100=0.200, 1000=0.180, 4000=0.131, 8000=0.122, 24000=0.117, 48000=0.109, 100000=0.101 (AUD); Capacitance: 10 uF; Operating Temperature Range: - 55 C to + 105 C; Package / Case: 0603 (1608 metric); Packaging: Reel; Product: General Type MLCCs; Series: C; Termination Style: SMD/SMT; Brand: TDK; Case Code - in: 0603; Case Code - mm: 1608; Case Width: 0.8 mm; Standard Pack Qty: 4000; Temperature Coefficient / Code: X6S; RoHS - Mouser: Y; Minimum Order Quantity: 1; Reeling: True; ComponentLink1URL: http://www.mouser.com/ds/2/400/C1608X6S0J106M080AC-264832.pdf; ComponentLink1Description: http://www.mouser.com/ds/2/400/C1608X6S0J106M080AC-264832.pdf; Supplier Part Number 1: 810-C1608X6S0J106M; My_Descript: C10uS03V6.3X
footprint C0603 (1608 metric)
pins: 1, 2

## C10uS03V16X
designator C?
Multilayer Ceramic Capacitors MLCC - SMD/SMT 0603 10uF 16volts X5R +/-20% GP; Manufacturer: TDK; Manufacturer Part Number: C1608X5R1C106M080AB; Tolerance: 20 %; Type: Multilayer Ceramic Chip Capacitor; Voltage Rating: 16 V; Case Height: 0.8 mm; Case Length: 1.6 mm; Product Status: New at Mouser; Supplier 1: Mouser; RoHS: RoHS Compliant; Category: Multilayer Ceramic Capacitors MLCC - SMD/SMT; Stock 1: 76412; Pricing 1: 1=1.16, 10=0.675, 100=0.413, 1000=0.379, 4000=0.236, 8000=0.232, 24000=0.228, 48000=0.220 (AUD); Capacitance: 10 uF; Operating Temperature Range: - 55 C to + 85 C; Package / Case: 0603 (1608 metric); Packaging: Reel; Product: General Type MLCCs; Series: C; Termination Style: SMD/SMT; Brand: TDK; Case Code - in: 0603; Case Code - mm: 1608; Case Width: 0.8 mm; Standard Pack Qty: 4000; Temperature Coefficient / Code: X5R; RoHS - Mouser: Y; Minimum Order Quantity: 1; Reeling: True; ComponentLink1URL: http://product.tdk.com/capacitor/mlcc/en/documents/mlcc_commercial_general_en.pdf; ComponentLink1Description: http://product.tdk.com/capacitor/mlcc/en/documents/mlcc_commercial_general_en.pdf; Supplier Part Number 1: 810-C1608X5R1C106M; My_Descript: C10uS03V16X
footprint C0603 (1608 metric)
pins: 1, 2

## C10uS05V16X
designator C?
Multilayer Ceramic Capacitors MLCC - SMD/SMT 0805 10uF 16volts X7S 10% 1.25mm; Manufacturer: TDK; Manufacturer Part Number: CGA4J1X7S1C106K125AC; Type: General Automotive; Voltage Rating: 16 V; Case Length: 2 mm; Class: 2; Product Status: New Product; Supplier 1: Mouser; RoHS: RoHS Compliant; Category: Multilayer Ceramic Capacitors MLCC - SMD/SMT; Stock 1: 0; Pricing 1: 1=0.648, 10=0.378, 100=0.231, 1000=0.213, 2000=0.132, 10000=0.130, 24000=0.128, 50000=0.123, 100000=0.119 (AUD); Capacitance: 10 uF; Operating Temperature Range: - 55 C to + 125 C; Package / Case: 0805 (2012 metric); Packaging: Reel; Product: Automotive MLCCs; Series: CGA; Termination Style: SMD/SMT; Tolerance: 10 %; Voltage Rating DC: 16 V; Brand: TDK; Case Code - in: 0805; Case Code - mm: 2012; Case Height: 1.25 mm; Case Width: 1.25 mm; Dielectric: X7S; Standard Pack Qty: 2000; Temperature Coefficient / Code: X7S; RoHS - Mouser: Y; Minimum Order Quantity: 1; Reeling: True; ComponentLink1URL: http://product.tdk.com/capacitor/mlcc/en/documents/mlcc_automotive_general_en.pdf; ComponentLink1Description: http://product.tdk.com/capacitor/mlcc/en/documents/mlcc_automotive_general_en.pdf; Supplier Part Number 1: 810-CGA4J1X7S1C106KC; My_Descript: C10uS05V16X
footprint C0805 (2012metric)
pins: 1, 2

## C10uS06V50X
designator C?
Multilayer Ceramic Capacitors MLCC - SMD/SMT; Manufacturer: TDK; Manufacturer Part Number: CGJ6P3X7S1H106K250AB; Capacitance: 10 uF; Tolerance: 10 %; Type: Ceramic High Reliability Capacitor; Voltage Rating: 50 V; Case Height: 2.5 mm; Case Length: 3.2 mm; Case Width: 1.6 mm; Class: Class 2; Dielectric: X7S; Dissipation Factor DF: 5; Product Status: New Product; Supplier 1: Mouser; RoHS: RoHS Compliant; Category: Multilayer Ceramic Capacitors MLCC - SMD/SMT; Stock 1: 0; Pricing 1: 1=2.75, 10=2.12, 100=1.58, 500=1.42, 1000=0.945, 2000=0.878, 5000=0.861, 10000=0.844 (AUD); Operating Temperature Range: - 55 C to + 125 C; Package / Case: 1206 (3216 metric); Packaging: Reel; Product: High Reliability MLCCs; Termination Style: SMD/SMT; Voltage Rating DC: 50 V; Brand: TDK; Case Code - in: 1206; Case Code - mm: 3216; Temperature Coefficient / Code: X7S; RoHS - Mouser: Y; Minimum Order Quantity: 1; Reeling: True; ComponentLink1URL: http://product.tdk.com/capacitor/mlcc/detailed_information.php?lang=en&ref=us&part_no=CGJ6P3X7S1H106K250AB; ComponentLink1Description: http://product.tdk.com/capacitor/mlcc/detailed_information.php?lang=en&ref=us&part_no=CGJ6P3X7S1H106K250AB; Supplier Part Number 1: 810-CGJ6P3X7S1H106AB; My_Descript: C10uS06V50X
footprint C1206(3216 metric)
pins: 1, 2

## C10uS10V50X
designator C?
Multilayer Ceramic Capacitors MLCC - SMD/SMT 10uF 20% 50Volts; Manufacturer: TDK; Manufacturer Part Number: C3225X7S1H106M250AB; Type: Multilayer Ceramic Chip Capacitor; Voltage Rating: 50 V; Case Height: 2 mm; Case Length: 3.2 mm; Case Width: 2.5 mm; Temperature Coefficient / Code: X7S; Supplier 1: Mouser; RoHS: RoHS Compliant; Category: Multilayer Ceramic Capacitors MLCC - SMD/SMT; Stock 1: 63634; Pricing 1: 1=1.51, 10=1.03, 100=0.608, 1000=0.410, 2000=0.358, 10000=0.352, 25000=0.344 (AUD); Capacitance: 10 uF; Operating Temperature Range: - 55 C to + 125 C; Package / Case: 1210 (3225 metric); Packaging: Reel; Product: General Type MLCCs; Termination Style: SMD/SMT; Tolerance: 20 %; Brand: TDK; Case Code - in: 1210; Case Code - mm: 3225; Standard Pack Qty: 1000; RoHS - Mouser: Y; Minimum Order Quantity: 1; Reeling: True; ComponentLink1URL: http://www.mouser.com/ds/2/400/C3225X7S1H106M250AB-265909.pdf; ComponentLink1Description: http://www.mouser.com/ds/2/400/C3225X7S1H106M250AB-265909.pdf; Supplier Part Number 1: 810-C3225X7S1H106M; My_Descript: C10uS10V50X; Supplier 2: Mouser; Stock 2: 10407; Pricing 2: 1=0.662, 10=0.383, 100=0.235, 1000=0.216, 2000=0.134, 10000=0.132, 24000=0.130, 50000=0.124, 100000=0.120 (AUD); ComponentLink2URL: http://www.mouser.com/ds/2/400/C2012X7R1H105M125AE-264901.pdf; ComponentLink2Description: http://www.mouser.com/ds/2/400/C2012X7R1H105M125AE-264901.pdf; Supplier Part Number 2: 810-C2012X7R1H105MST
footprint C1210(3216 metric)
pins: 1, 2

## C15pS03V50X
designator C?
Multilayer Ceramic Capacitors MLCC - SMD/SMT 50volts 15pF 1% C0G; Manufacturer: AVX; Manufacturer Part Number: 06035A150FAT2A; Type: Commercial Surface Mount Chip; Voltage Rating: 50 V; Case Length: 1.6 mm; Case Width: 0.81 mm; Temperature Coefficient / Code: C0G (NP0); Supplier 1: Mouser; RoHS: RoHS Compliant By Exemption; Category: Multilayer Ceramic Capacitors MLCC - SMD/SMT; Stock 1: 3358; Pricing 1: 1=0.405, 50=0.365, 100=0.297, 500=0.203, 1000=0.182, 4000=0.149, 8000=0.130, 12000=0.122, 20000=0.115 (AUD); Capacitance: 15 pF; Operating Temperature Range: - 55 C to + 125 C; Package / Case: 0603 (1608 metric); Packaging: Reel; Product: General Type MLCCs; Series: 0603; Termination Style: SMD/SMT; Tolerance: 1 %; Brand: AVX; Case Code - in: 0603; Case Code - mm: 1608; Product Category: 0603 SMD Ceramic Capacitors; Standard Pack Qty: 4000; RoHS - Mouser: E; Minimum Order Quantity: 1; Reeling: True; ComponentLink1URL: http://www.mouser.com/ds/2/40/ccog-243403.pdf; ComponentLink1Description: http://www.mouser.com/ds/2/40/ccog-243403.pdf; Supplier Part Number 1: 581-06035A150FAT2A; My_Descript: C15pS03V50X
footprint C0603 (1608 metric)
pins: 1, 2

## C16pS03V50X
designator C?
Multilayer Ceramic Capacitors MLCC - SMD/SMT 50volts 16pF 1% C0G; Manufacturer: AVX; Manufacturer Part Number: 06035A160FAT2A; Type: Commercial Surface Mount Chip; Voltage Rating: 50 V; Case Length: 1.6 mm; Case Width: 0.81 mm; Temperature Coefficient / Code: C0G (NP0); Supplier 1: Mouser; RoHS: RoHS Compliant; Category: Multilayer Ceramic Capacitors MLCC - SMD/SMT; Stock 1: 0; Pricing 1: 4000=0.113, 5800=0.113, 8000=0.108, 24000=0.101 (AUD); Capacitance: 16 pF; Operating Temperature Range: - 55 C to + 125 C; Package / Case: 0603 (1608 metric); Packaging: Reel; Product: General Type MLCCs; Termination Style: SMD/SMT; Tolerance: 1 %; Brand: AVX; Case Code - in: 0603; Case Code - mm: 1608; Product Category: 0603 SMD Ceramic Capacitors; Standard Pack Qty: 4000; RoHS - Mouser: Y; Minimum Order Quantity: 5800; Reeling: True; ComponentLink1URL: http://www.mouser.com/ds/2/40/ccog-243403.pdf; ComponentLink1Description: http://www.mouser.com/ds/2/40/ccog-243403.pdf; Supplier Part Number 1: 581-06035A160FAT2A; My_Descript: C16pS03V50X
footprint C0603 (1608 metric)
pins: 1, 2

## C18pS02V50X
designator C?
Multilayer Ceramic Capacitors MLCC - SMD/SMT 50volts 18pF C0G 5%; Manufacturer: Kemet; Manufacturer Part Number: C0402C180J5GACTU; Voltage Rating: 50 V; Temperature Coefficient / Code: C0G (NP0); Class: 1; Supplier 1: Mouser; Supplier Part Number 1: 80-C0402C180J5G; RoHS: RoHS Compliant; Capacitance: 18 pF; Operating Temperature Range: - 55 C to + 125 C; Package / Case: 0402 (1005 metric); Product: Low ESR MLCCs; Termination Style: SMD/SMT; Tolerance: 5 %; Voltage Rating DC: 50 V; Product Category: 0402 SMD Ceramic Chip Capacitors; RoHS - Mouser: Y; Value: 18pF; Minimum Order Quantity: 1; Reeling: True; Case Code - mm: 1005; Series: C0402C; Packaging: Reel; Lead Spacing: 0.3 mm; Standard Pack Qty: 10000; Category: Multilayer Ceramic Capacitors MLCC - SMD/SMT; Case Code - in: 0402; Dimensions: 0.5 mm W x 1 mm L x 0.5 mm H; My_Descript: C18pS02V50X
footprint C0402 (1005 metric)
pins: 1, 2

## C18pS03V50X
designator C?
Multilayer Ceramic Capacitors MLCC - SMD/SMT 0603 18pF 50volts C0G 5%; Manufacturer: TDK; Manufacturer Part Number: C1608C0G1H180J080AA; Type: Multilayer Ceramic Chip Capacitor; Voltage Rating: 50 V; Case Height: 0.8 mm; Case Length: 1.6 mm; Temperature Coefficient / Code: C0G (NP0); Supplier 1: Mouser; RoHS: RoHS Compliant; Category: Multilayer Ceramic Capacitors MLCC - SMD/SMT; Stock 1: 72716; Pricing 1: 1=0.176, 10=0.022, 100=0.014, 1000=0.011, 4000=0.008, 8000=0.007, 48000=0.005, 100000=0.004 (AUD); Capacitance: 18 pF; Operating Temperature Range: - 55 C to + 125 C; Package / Case: 0603 (1608 metric); Packaging: Reel; Product: General Type MLCCs; Series: C; Termination Style: SMD/SMT; Tolerance: 5 %; Brand: TDK; Case Code - in: 0603; Case Code - mm: 1608; Case Width: 0.8 mm; Product Category: Low & Medium Capacitance SMD Ceramic Chip Capacitors; Standard Pack Qty: 4000; RoHS - Mouser: Y; Minimum Order Quantity: 1; Reeling: True; ComponentLink1URL: http://www.mouser.com/ds/2/400/C1608C0G1H180J080AA-264648.pdf; ComponentLink1Description: http://www.mouser.com/ds/2/400/C1608C0G1H180J080AA-264648.pdf; Supplier Part Number 1: 810-C1608C0G1H180J; My_Descript: C18pS03V50X
footprint C0603 (1608 metric)
pins: 1, 2

## C22pS02V50X
designator C?
Multilayer Ceramic Capacitors MLCC - SMD/SMT 50volts 22pF C0G 5%; Manufacturer: Kemet; Manufacturer Part Number: C0402C220J5GACTU; Temperature Coefficient / Code: C0G (NP0); Voltage Rating DC: 50 V; Class: 1; Value: 22pF; Supplier 1: Mouser; Supplier Part Number 1: 80-C0402C220J5G; Category: Multilayer Ceramic Capacitors MLCC - SMD/SMT; RoHS - Mouser: Y; Product: Low ESR MLCCs; Supplier: Mouser; Operating Temperature Range: - 55 C to + 125 C; Lead Spacing: 0.3 mm; RoHS: RoHS Compliant; Case Code - in: 0402; Tolerance: 5 %; Packaging: Reel; Standard Pack Qty: 10000; Reeling: True; Case Code - mm: 1005; Termination Style: SMD/SMT; Supplier Part Number: 80-C0402C220J5G; Package / Case: 0402 (1005 metric); Series: C0402C; Dimensions: 0.5 mm W x 1 mm L x 0.5 mm H; Capacitance: 22 pF; Voltage Rating: 50 V; Product Category: 0402 SMD Ceramic Chip Capacitors; My_Descript: C22pS02V50X
footprint C0402 (1005 metric)
pins: 1, 2

## C22pS03V50X
designator C?
Multilayer Ceramic Capacitors MLCC - SMD/SMT 22pF 50V NPO 5%; Manufacturer: Yageo; Manufacturer Part Number: CC0603JRNPO9BN220; Type: Multilayer Ceramic Chip Capacitor; Case Length: 1.6 mm; Case Width: 0.8 mm; Temperature Coefficient / Code: C0G (NP0); Supplier 1: Mouser; RoHS: RoHS Compliant By Exemption; Category: Multilayer Ceramic Capacitors MLCC - SMD/SMT; Stock 1: 36000; Pricing 1: 4000=0.014, 8000=0.012, 12000=0.011, 100000=0.008 (AUD); Capacitance: 22 pF; Operating Temperature Range: - 55 C to + 125 C; Package / Case: 0603 (1608 metric); Packaging: Reel; Product: General Type MLCCs; Termination Style: SMD/SMT; Tolerance: 5 %; Voltage Rating: 50 V; Brand: Yageo; Case Code - in: 0603; Case Code - mm: 1608; Standard Pack Qty: 4000; RoHS - Mouser: E; Minimum Order Quantity: 4000; Reeling: True; ComponentLink1URL: http://www.mouser.com/ds/2/447/UPY-GP_NP0_16V-to-50V_(8)-217813.pdf; ComponentLink1Description: http://www.mouser.com/ds/2/447/UPY-GP_NP0_16V-to-50V_(8)-217813.pdf; Supplier Part Number 1: 603-CC603JRNPO9BN220; My_Descript: C22pS03V50X
footprint C0603 (1608 metric)
pins: 1, 2